# Altium footprint library PCB - IND - MSSxxxx.PCBLIB: 2 footprints
Each footprint in its own frame and in the unit in brackets; x right, y up, seen from the top. Pads: shape width x height; smd on the part's side, far side on the other; paste and mask are expansions set on the pad; w line width, h text height; cw(c..) or ccw(c..) is an arc to the next point about the centre after c.
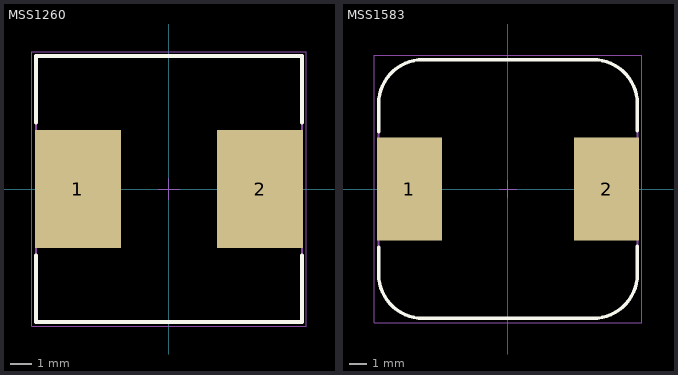
[diagram p0: the footprints below, top view; thin cyan lines are the x and y axes]

## MSS1260 [mm]
height 6.2
pads (2):
  rect 4x5.5 smd: 1(-4.25,0) 2(4.25,0)
Top Overlay:
  lines w0.178: -6.2,-3.1 -6.2,-6.2 0,-6.2 6.2,-6.2 6.2,-3.1 ; -6.2,3.1 -6.2,6.2 0,6.2 6.2,6.2 6.2,3.1
Top Assembly:
  lines w0.102: -6.2,-6.175 -6.2,6.175 -6.175,6.2 6.175,6.2 6.2,6.175 6.2,-6.2 -6.175,-6.2 -6.2,-6.175
Top Courtyard:
  lines w0.05: -6.4,-6.4 -6.4,6.4 6.4,6.4 6.4,-6.4 -6.4,-6.4
Top Designator:
  text ".Designator" at -1.524,-0.508 h1.02
Top Component Center:
  lines w0.05: -0.5,0 0.5,0 ; 0,-0.5 0,0.5
3D body "MSS1260.STEP": height 6.25, standoff 0.02, extent -6.15,-6.15 6.15,6.15

## MSS1583 [mm] "Coilcraft recommended land pattern"
height 8.6
pads (2):
  rect 3.8x6 smd: 1(-5.75,0) 2(5.75,0)
Top Overlay:
  lines w0.2: -7.55,3.35 -7.55,4.95 cw(c-4.95,4.95) -4.95,7.55 -3,7.55 3,7.55 4.95,7.55 cw(c4.95,4.95) 7.55,4.95 7.54,3.4 ; -7.54,-3.4 -7.55,-4.95 ccw(c-4.95,-4.95) -4.95,-7.55 -3,-7.55 3,-7.55 4.95,-7.55 ccw(c4.95,-4.95) 7.55,-4.95 7.55,-3.35
Top Assembly:
  lines w0.1: -7.55,-4.95 ccw(c-4.95,-4.95) -4.95,-7.55 -3,-7.55 3,-7.55 4.95,-7.55 ccw(c4.95,-4.95) 7.55,-4.95 7.55,-3 7.55,-2.8 7.55,2.8 7.55,3 7.55,4.95 ccw(c4.95,4.95) 4.95,7.55 3,7.55 -3,7.55 -4.95,7.55 ccw(c-4.95,4.95) -7.55,4.95 -7.55,3 -7.55,2.8 -7.55,-2.8 -7.55,-3 -7.55,-4.95
Top Courtyard:
  lines w0.05: -7.8,-7.8 -7.8,7.8 7.8,7.8 7.8,-7.8 -7.8,-7.8
Top Designator:
  text ".Designator" at -1.7,-0.5 h1.85
Top Component Center:
  lines w0.05: -0.5,0 0.5,0 ; 0,-0.5 0,0.5
3D body "MSS1583.stp": height 9.05, standoff 0, extent -7.55,-7.55 7.55,7.55